# Altium footprint library Speaker.PcbLib: 5 footprints
Each footprint in its own frame and in the unit in brackets; x right, y up, seen from the top. Pads: shape width x height; smd on the part's side, far side on the other; paste and mask are expansions set on the pad; w line width, h text height; cw(c..) or ccw(c..) is an arc to the next point about the centre after c.
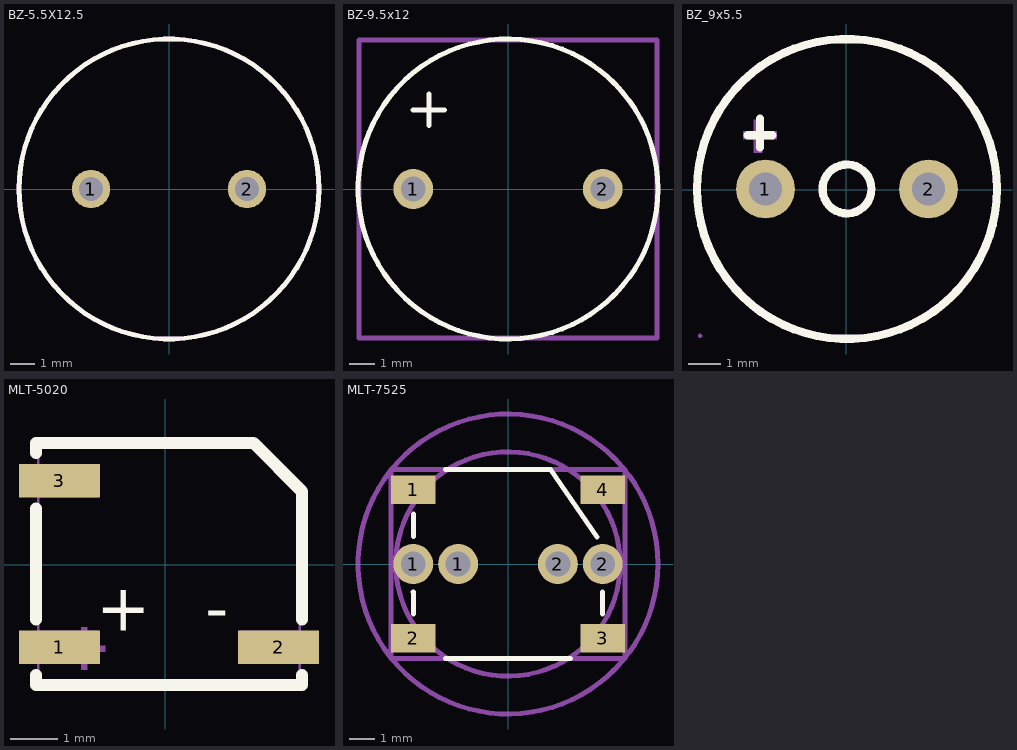
[diagram p0: the footprints below, top view; thin cyan lines are the x and y axes]

## BZ-5.5X12.5 [mm]
pads (2):
  round 1.6 hole 1: 1(-3.25,0) 2(3.25,0)
Top Overlay:
  circle w0.2: c0,0 r6.25
Mechanical 13:
  circle w0.2: c0,0 r6.25
  text ".Designator" at -2.286,-0.257 h2
3D body: height 5.5, standoff 0, extent -6.25,-6.247 6.25,6.247
3D body: height 5.55, standoff 0, extent -0.994,-0.998 0.998,0.998

## BZ-9.5x12 [mm]
pads (2):
  round 1.6 hole 1: 1(-3.8,0) 2(3.8,0)
Top Overlay:
  circle w0.2: c0,0 r6.017
  lines w0.2: -3.81,3.175 -2.54,3.175 ; -3.175,2.54 -3.175,3.81
Mechanical 13:
  lines w0.2: -5.969,-5.969 5.969,-5.969 5.969,5.969 -5.969,5.969 -5.969,-5.969
  text ".Designator" at -3.8,0 h1.5
Mechanical 15:
  lines w0.2: -5.969,-5.969 -5.969,5.969 5.969,5.969 5.969,-5.969 -5.969,-5.969
  text ".Comment" at -3.8,0 h1.5
3D body "cem-1212c.stp": height 9.5, standoff -4.5, extent -6,-6 6,6

## BZ_9x5.5 [mm]
pads (2):
  round 1.8 hole 1 copper offset 0,0: 1(-2.472,0.028)
  round 1.8 hole 1: 2(2.528,0.028)
Top Overlay:
  circle w0.254: c0.028,0.028 r4.6
  circle w0.254: c0.028,0.028 r0.75
  lines w0.254: -3.02,1.679 -2.258,1.679 ; -2.639,1.298 -2.639,2.187
Mechanical 6:
  region: -3.02,1.552 -2.131,1.552 -2.131,1.806 -3.147,1.806 -3.147,1.552
  region: -2.57,1.263 -2.57,2.152 -2.824,2.152 -2.824,1.136 -2.57,1.136
Mechanical 15:
  region: -4.417,-4.477 -4.417,-4.452 -4.452,-4.417 -4.502,-4.417 -4.537,-4.452 -4.537,-4.477 -4.537,-4.502 -4.502,-4.537 -4.452,-4.537 -4.417,-4.502 -4.417,-4.477
  region: 2.828,0.028 2.828,0.087 2.781,0.196 2.697,0.28 2.588,0.325 2.469,0.325 2.36,0.28 2.275,0.196 2.229,0.087 2.228,0.028 2.229,-0.031 2.275,-0.14 2.36,-0.224 2.469,-0.269 2.588,-0.269 2.697,-0.224 2.781,-0.14 2.828,-0.031 2.828,0.028
  region: -2.172,0.028 -2.172,0.087 -2.219,0.196 -2.303,0.28 -2.412,0.325 -2.531,0.325 -2.64,0.28 -2.725,0.196 -2.771,0.087 -2.772,0.028 -2.771,-0.031 -2.725,-0.14 -2.64,-0.224 -2.531,-0.269 -2.412,-0.269 -2.303,-0.224 -2.219,-0.14 -2.172,-0.031 -2.172,0.028
  lines w0.051: -4.477,0.028 cw(c0.028,0.028) 4.533,0.028 cw(c0.028,0.028) -4.477,0.028
3D body "Buzzer 9 mm.SLDPRT": height 5.5, standoff -5, extent -4.5,-4.5 4.5,4.5

## MLT-5020 [mm]
pads (3):
  rect 1.7x0.7 smd paste+0 mask+0.051: 1(-2.225,-1.73) 2(2.375,-1.73) 3(-2.225,1.77)
Top Overlay:
  lines w0.254: -2.719,-2.311 -2.719,-2.52 2.868,-2.52 2.868,-2.312 ; -2.719,-1.149 -2.719,1.189 ; -2.719,2.351 -2.719,2.56 1.853,2.56 2.869,1.544 2.869,-1.149
  text "+" at -1.449,-1.377 h1
  text "-" at 0.837,-1.377 h1
Mechanical 6:
  region: -1.767,-2.203 -1.767,-1.822 -2.148,-1.822 -2.148,-1.695 -1.767,-1.695 -1.767,-1.314 -1.64,-1.314 -1.64,-1.695 -1.259,-1.695 -1.259,-1.822 -1.64,-1.822 -1.64,-2.203
  region: 1.662,-1.695 2.551,-1.695 2.551,-1.822 1.662,-1.822
Mechanical 15:
  region: -2.615,-2.48 -2.615,-2.455 -2.65,-2.42 -2.7,-2.42 -2.735,-2.455 -2.735,-2.48 -2.735,-2.505 -2.7,-2.54 -2.65,-2.54 -2.615,-2.505
  region: -2.675,2.12 -1.425,2.12 -1.425,1.42 -2.675,1.42
  region: -2.675,-1.38 -1.425,-1.38 -1.425,-2.08 -2.675,-2.08
  region: 1.575,-1.38 2.825,-1.38 2.825,-2.08 1.575,-2.08
  lines w0.051: -2.675,-2.48 -2.675,2.52 1.775,2.52 2.825,1.52 2.825,-2.48 -2.675,-2.48

## MLT-7525 [mm]
pads (8):
  round 1.6 hole 1: 1(-3.8,0) 1(-2,0) 2(2,0) 2(3.8,0)
  rect 1.78x1.15 smd: 1(-3.795,2.98) 2(-3.795,-2.98) 3(3.795,-2.98) 4(3.795,2.98)
Top Overlay:
  lines w0.2: -3.804,-1.129 -3.8,-1.129 -3.8,-2 ; -3.8,1.1 -3.8,2 ; -2.5,-3.8 2.5,-3.8 ; -2.5,3.8 1.7,3.8 3.574,1.082 ; 3.8,-2 3.8,-1.129
Mechanical 13:
  circle w0.2: c0,0 r6.017
  circle w0.2: c0,0 r4.5
  lines w0.2: -4.7,-3.8 4.7,-3.8 4.7,3.8 -4.7,3.8 -4.7,-3.8
  text ".Designator" at -1.3,-0.2 h1
3D body: height 2.5, standoff 0, extent -3.75,-3.75 3.75,3.75